# Altium footprint library Connector_Molex.PcbLib: 815 footprints (part 8 of 51)
Each footprint in its own frame and in the unit in brackets; x right, y up, seen from the top. Pads: shape width x height; smd on the part's side, far side on the other; paste and mask are expansions set on the pad; w line width, h text height; cw(c..) or ccw(c..) is an arc to the next point about the centre after c.
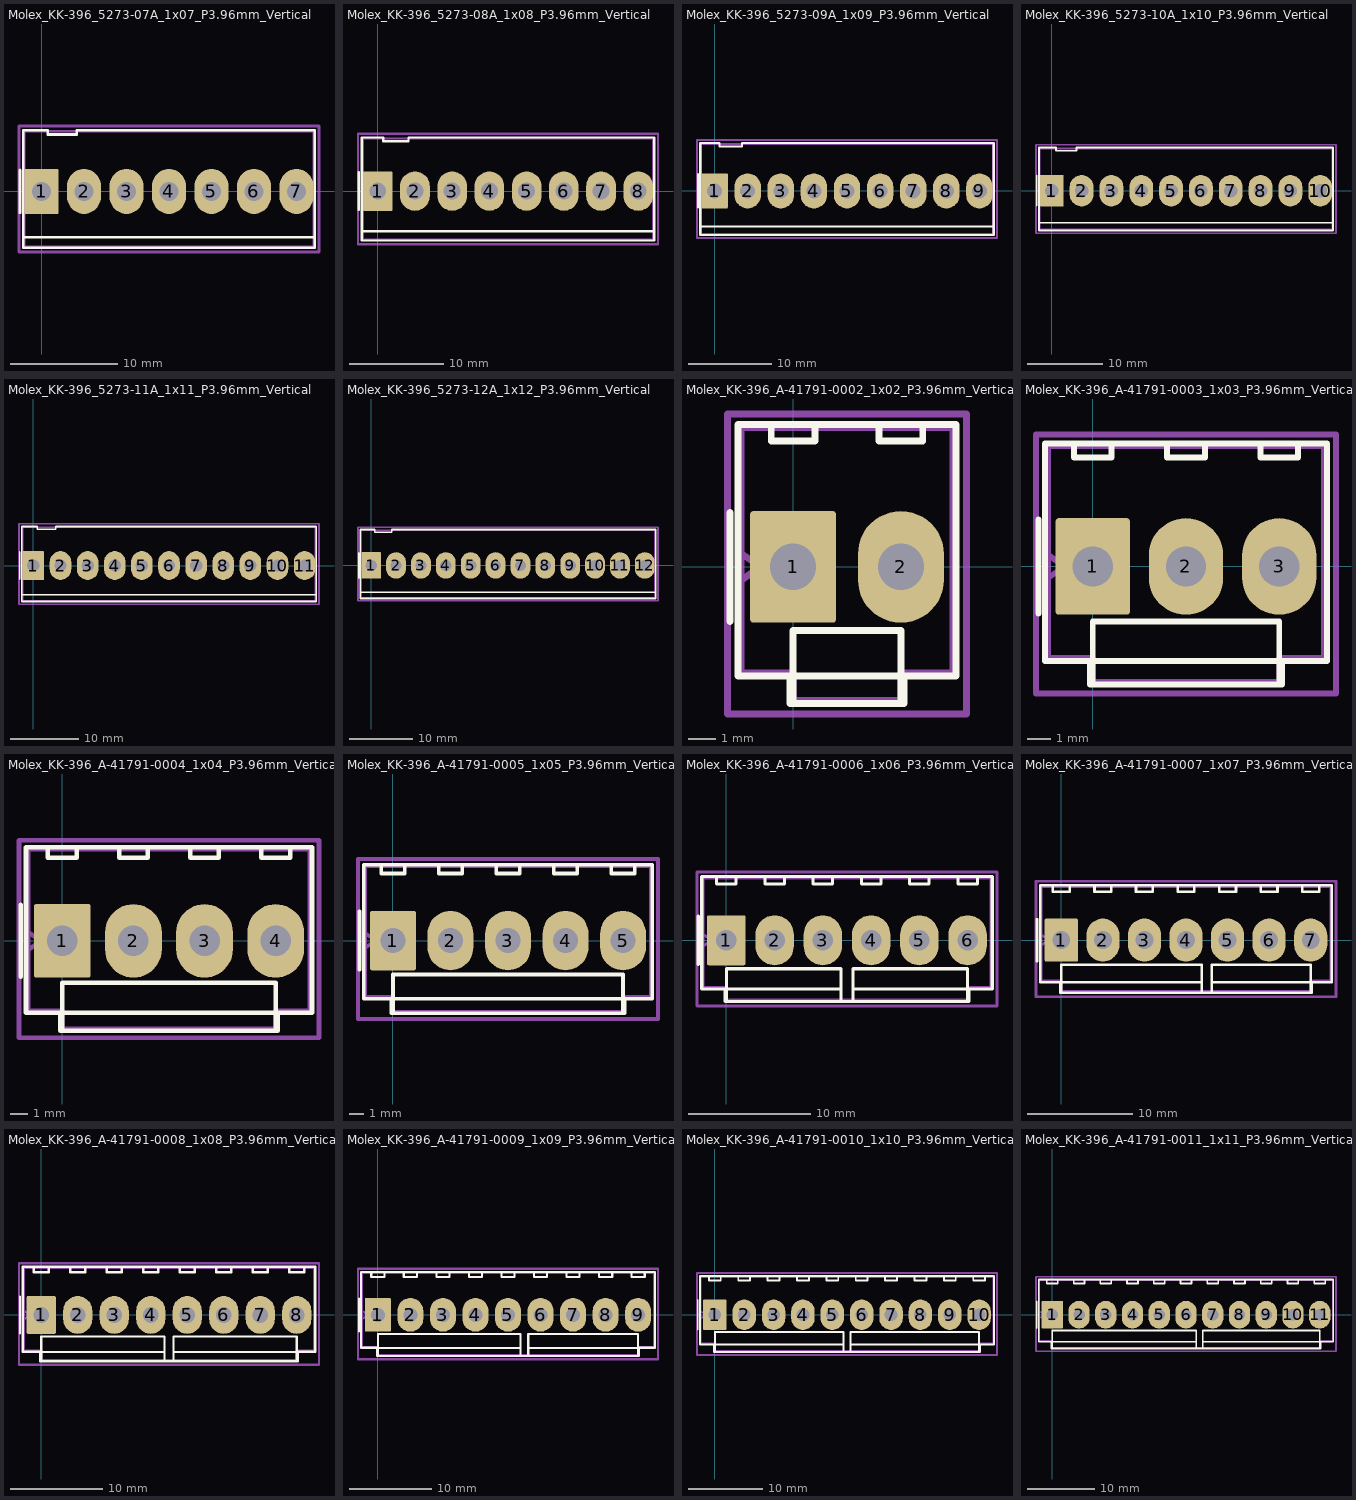
[diagram p7: the footprints below, top view; thin cyan lines are the x and y axes]

## Molex_KK-396_5273-07A_1x07_P3.96mm_Vertical [mm]
pads (7):
  rrect8% 3.16x4.2 hole 1.8: 1(0,0)
  rrect100% 3.16x4.2 hole 1.8: 2(3.96,0) 3(7.92,0) 4(11.88,0) 5(15.84,0) 6(19.8,0) 7(23.76,0)
F.SilkS:
  lines w0.254: -2,-2 -2,2 ; 25.47,-4.26 -1.71,-4.26 ; -1.71,-4.26 -1.71,-5.26 25.47,-5.26 25.47,5.71 3.27,5.71 3.27,5.31 0.57,5.31 0.57,5.71 -1.71,5.71 -1.71,-4.26
Top Assembly:
  lines w0.254: -1.6,-0.5 -0.893,0 -1.6,0.5 ; -1.6,-5.15 25.36,-5.15 25.36,5.6 -1.6,5.6 -1.6,-5.15
  text "'.Designator'" at 7.833,4.06 h1
Top Courtyard:
  lines w0.254: -2.1,-5.65 25.86,-5.65 25.86,6.1 -2.1,6.1 -2.1,-5.65
Top Designator:
  text ".Designator" at 4.262,-0.283 h1.52

## Molex_KK-396_5273-08A_1x08_P3.96mm_Vertical [mm]
pads (8):
  rrect8% 3.16x4.2 hole 1.8: 1(0,0)
  rrect100% 3.16x4.2 hole 1.8: 2(3.96,0) 3(7.92,0) 4(11.88,0) 5(15.84,0) 6(19.8,0) 7(23.76,0) 8(27.72,0)
F.SilkS:
  lines w0.254: -2,-2 -2,2 ; 29.43,-4.26 -1.71,-4.26 ; -1.71,-4.26 -1.71,-5.26 29.43,-5.26 29.43,5.71 3.27,5.71 3.27,5.31 0.57,5.31 0.57,5.71 -1.71,5.71 -1.71,-4.26
Top Assembly:
  lines w0.254: -1.6,-0.5 -0.893,0 -1.6,0.5 ; -1.6,-5.15 29.32,-5.15 29.32,5.6 -1.6,5.6 -1.6,-5.15
  text "'.Designator'" at 9.813,4.06 h1
Top Courtyard:
  lines w0.254: -2.1,-5.65 29.82,-5.65 29.82,6.1 -2.1,6.1 -2.1,-5.65
Top Designator:
  text ".Designator" at 6.242,-0.283 h1.52

## Molex_KK-396_5273-09A_1x09_P3.96mm_Vertical [mm]
pads (9):
  rrect8% 3.16x4.2 hole 1.8: 1(0,0)
  rrect100% 3.16x4.2 hole 1.8: 2(3.96,0) 3(7.92,0) 4(11.88,0) 5(15.84,0) 6(19.8,0) 7(23.76,0) 8(27.72,0) 9(31.68,0)
F.SilkS:
  lines w0.254: -2,-2 -2,2 ; 33.39,-4.26 -1.71,-4.26 ; -1.71,-4.26 -1.71,-5.26 33.39,-5.26 33.39,5.71 3.27,5.71 3.27,5.31 0.57,5.31 0.57,5.71 -1.71,5.71 -1.71,-4.26
Top Assembly:
  lines w0.254: -1.6,-0.5 -0.893,0 -1.6,0.5 ; -1.6,-5.15 33.28,-5.15 33.28,5.6 -1.6,5.6 -1.6,-5.15
  text "'.Designator'" at 11.793,4.06 h1
Top Courtyard:
  lines w0.254: -2.1,-5.65 33.78,-5.65 33.78,6.1 -2.1,6.1 -2.1,-5.65
Top Designator:
  text ".Designator" at 8.222,-0.283 h1.52

## Molex_KK-396_5273-10A_1x10_P3.96mm_Vertical [mm]
pads (10):
  rrect8% 3.16x4.2 hole 1.8: 1(0,0)
  rrect100% 3.16x4.2 hole 1.8: 2(3.96,0) 3(7.92,0) 4(11.88,0) 5(15.84,0) 6(19.8,0) 7(23.76,0) 8(27.72,0) 9(31.68,0) 10(35.64,0)
F.SilkS:
  lines w0.254: -2,-2 -2,2 ; 37.35,-4.26 -1.71,-4.26 ; -1.71,-4.26 -1.71,-5.26 37.35,-5.26 37.35,5.71 3.27,5.71 3.27,5.31 0.57,5.31 0.57,5.71 -1.71,5.71 -1.71,-4.26
Top Assembly:
  lines w0.254: -1.6,-0.5 -0.893,0 -1.6,0.5 ; -1.6,-5.15 37.24,-5.15 37.24,5.6 -1.6,5.6 -1.6,-5.15
  text "'.Designator'" at 13.773,4.06 h1
Top Courtyard:
  lines w0.254: -2.1,-5.65 37.74,-5.65 37.74,6.1 -2.1,6.1 -2.1,-5.65
Top Designator:
  text ".Designator" at 10.202,-0.283 h1.52

## Molex_KK-396_5273-11A_1x11_P3.96mm_Vertical [mm]
pads (11):
  rrect8% 3.16x4.2 hole 1.8: 1(0,0)
  rrect100% 3.16x4.2 hole 1.8: 2(3.96,0) 3(7.92,0) 4(11.88,0) 5(15.84,0) 6(19.8,0) 7(23.76,0) 8(27.72,0) 9(31.68,0) 10(35.64,0) 11(39.6,0)
F.SilkS:
  lines w0.254: -2,-2 -2,2 ; 41.31,-4.26 -1.71,-4.26 ; -1.71,-4.26 -1.71,-5.26 41.31,-5.26 41.31,5.71 3.27,5.71 3.27,5.31 0.57,5.31 0.57,5.71 -1.71,5.71 -1.71,-4.26
Top Assembly:
  lines w0.254: -1.6,-0.5 -0.893,0 -1.6,0.5 ; -1.6,-5.15 41.2,-5.15 41.2,5.6 -1.6,5.6 -1.6,-5.15
  text "'.Designator'" at 15.753,4.06 h1
Top Courtyard:
  lines w0.254: -2.1,-5.65 41.7,-5.65 41.7,6.1 -2.1,6.1 -2.1,-5.65
Top Designator:
  text ".Designator" at 12.182,-0.283 h1.52

## Molex_KK-396_5273-12A_1x12_P3.96mm_Vertical [mm]
pads (12):
  rrect8% 3.16x4.2 hole 1.8: 1(0,0)
  rrect100% 3.16x4.2 hole 1.8: 2(3.96,0) 3(7.92,0) 4(11.88,0) 5(15.84,0) 6(19.8,0) 7(23.76,0) 8(27.72,0) 9(31.68,0) 10(35.64,0) 11(39.6,0) 12(43.56,0)
F.SilkS:
  lines w0.254: -2,-2 -2,2 ; 45.27,-4.26 -1.71,-4.26 ; -1.71,-4.26 -1.71,-5.26 45.27,-5.26 45.27,5.71 3.27,5.71 3.27,5.31 0.57,5.31 0.57,5.71 -1.71,5.71 -1.71,-4.26
Top Assembly:
  lines w0.254: -1.6,-0.5 -0.893,0 -1.6,0.5 ; -1.6,-5.15 45.16,-5.15 45.16,5.6 -1.6,5.6 -1.6,-5.15
  text "'.Designator'" at 17.733,4.06 h1
Top Courtyard:
  lines w0.254: -2.1,-5.65 45.66,-5.65 45.66,6.1 -2.1,6.1 -2.1,-5.65
Top Designator:
  text ".Designator" at 14.162,-0.283 h1.52

## Molex_KK-396_A-41791-0002_1x02_P3.96mm_Vertical [mm]
pads (2):
  rrect8% 3.16x4.1 hole 1.7: 1(0,0)
  rrect100% 3.16x4.1 hole 1.7: 2(3.96,0)
F.SilkS:
  lines w0.254: -2.31,-2 -2.31,2 ; -0.8,5.22 -0.8,4.62 0.8,4.62 0.8,5.22 ; 0,-5.01 0,-4.01 ; 3.16,5.22 3.16,4.62 4.76,4.62 4.76,5.22 ; 3.96,-5.01 3.96,-4.01 ; 0,-4.01 3.96,-4.01 ; 0,-4.01 0,-2.34 3.96,-2.34 3.96,-4.01 ; -2.02,-4.005 -0.115,-4.005 -0.115,-5.01 4.075,-5.01 4.075,-4.005 5.98,-4.005 5.98,5.22 -2.02,5.22 -2.02,-4.005
Top Assembly:
  lines w0.254: -1.91,-0.5 -1.203,0 -1.91,0.5 ; -1.91,-3.895 -0.005,-3.895 -0.005,-4.9 3.965,-4.9 3.965,-3.895 5.87,-3.895 5.87,5.11 -1.91,5.11 -1.91,-3.895
  text "'.Designator'" at -2.067,3.57 h1
Top Courtyard:
  lines w0.254: -2.41,-5.4 6.37,-5.4 6.37,5.61 -2.41,5.61 -2.41,-5.4
Top Designator:
  text ".Designator" at -5.638,-0.403 h1.52

## Molex_KK-396_A-41791-0003_1x03_P3.96mm_Vertical [mm]
pads (3):
  rrect8% 3.16x4.1 hole 1.7: 1(0,0)
  rrect100% 3.16x4.1 hole 1.7: 2(3.96,0) 3(7.92,0)
F.SilkS:
  lines w0.254: -2.31,-2 -2.31,2 ; -0.8,5.22 -0.8,4.62 0.8,4.62 0.8,5.22 ; 0,-5.01 0,-4.01 ; 3.16,5.22 3.16,4.62 4.76,4.62 4.76,5.22 ; 7.12,5.22 7.12,4.62 8.72,4.62 8.72,5.22 ; 7.92,-5.01 7.92,-4.01 ; 0,-4.01 7.92,-4.01 ; 0,-4.01 0,-2.34 7.92,-2.34 7.92,-4.01 ; -2.02,-4.005 -0.115,-4.005 -0.115,-5.01 8.035,-5.01 8.035,-4.005 9.94,-4.005 9.94,5.22 -2.02,5.22 -2.02,-4.005
Top Assembly:
  lines w0.254: -1.91,-0.5 -1.203,0 -1.91,0.5 ; -1.91,-3.895 -0.005,-3.895 -0.005,-4.9 7.925,-4.9 7.925,-3.895 9.83,-3.895 9.83,5.11 -1.91,5.11 -1.91,-3.895
  text "'.Designator'" at -0.087,3.57 h1
Top Courtyard:
  lines w0.254: -2.41,-5.4 10.33,-5.4 10.33,5.61 -2.41,5.61 -2.41,-5.4
Top Designator:
  text ".Designator" at -3.658,-0.403 h1.52

## Molex_KK-396_A-41791-0004_1x04_P3.96mm_Vertical [mm]
pads (4):
  rrect8% 3.16x4.1 hole 1.7: 1(0,0)
  rrect100% 3.16x4.1 hole 1.7: 2(3.96,0) 3(7.92,0) 4(11.88,0)
F.SilkS:
  lines w0.254: -2.31,-2 -2.31,2 ; -0.8,5.22 -0.8,4.62 0.8,4.62 0.8,5.22 ; 0,-5.01 0,-4.01 ; 3.16,5.22 3.16,4.62 4.76,4.62 4.76,5.22 ; 7.12,5.22 7.12,4.62 8.72,4.62 8.72,5.22 ; 11.08,5.22 11.08,4.62 12.68,4.62 12.68,5.22 ; 11.88,-5.01 11.88,-4.01 ; 0,-4.01 11.88,-4.01 ; 0,-4.01 0,-2.34 11.88,-2.34 11.88,-4.01 ; -2.02,-4.005 -0.115,-4.005 -0.115,-5.01 11.995,-5.01 11.995,-4.005 13.9,-4.005 13.9,5.22 -2.02,5.22 -2.02,-4.005
Top Assembly:
  lines w0.254: -1.91,-0.5 -1.203,0 -1.91,0.5 ; -1.91,-3.895 -0.005,-3.895 -0.005,-4.9 11.885,-4.9 11.885,-3.895 13.79,-3.895 13.79,5.11 -1.91,5.11 -1.91,-3.895
  text "'.Designator'" at 1.893,3.57 h1
Top Courtyard:
  lines w0.254: -2.41,-5.4 14.29,-5.4 14.29,5.61 -2.41,5.61 -2.41,-5.4
Top Designator:
  text ".Designator" at -1.678,-0.403 h1.52

## Molex_KK-396_A-41791-0005_1x05_P3.96mm_Vertical [mm]
pads (5):
  rrect8% 3.16x4.1 hole 1.7: 1(0,0)
  rrect100% 3.16x4.1 hole 1.7: 2(3.96,0) 3(7.92,0) 4(11.88,0) 5(15.84,0)
F.SilkS:
  lines w0.254: -2.31,-2 -2.31,2 ; -0.8,5.22 -0.8,4.62 0.8,4.62 0.8,5.22 ; 0,-5.01 0,-4.01 ; 3.16,5.22 3.16,4.62 4.76,4.62 4.76,5.22 ; 7.12,5.22 7.12,4.62 8.72,4.62 8.72,5.22 ; 11.08,5.22 11.08,4.62 12.68,4.62 12.68,5.22 ; 15.04,5.22 15.04,4.62 16.64,4.62 16.64,5.22 ; 15.84,-5.01 15.84,-4.01 ; 0,-4.01 15.84,-4.01 ; 0,-4.01 0,-2.34 15.84,-2.34 15.84,-4.01 ; -2.02,-4.005 -0.115,-4.005 -0.115,-5.01 15.955,-5.01 15.955,-4.005 17.86,-4.005 17.86,5.22 -2.02,5.22 -2.02,-4.005
Top Assembly:
  lines w0.254: -1.91,-0.5 -1.203,0 -1.91,0.5 ; -1.91,-3.895 -0.005,-3.895 -0.005,-4.9 15.845,-4.9 15.845,-3.895 17.75,-3.895 17.75,5.11 -1.91,5.11 -1.91,-3.895
  text "'.Designator'" at 3.873,3.57 h1
Top Courtyard:
  lines w0.254: -2.41,-5.4 18.25,-5.4 18.25,5.61 -2.41,5.61 -2.41,-5.4
Top Designator:
  text ".Designator" at 0.302,-0.403 h1.52

## Molex_KK-396_A-41791-0006_1x06_P3.96mm_Vertical [mm]
pads (6):
  rrect8% 3.16x4.1 hole 1.7: 1(0,0)
  rrect100% 3.16x4.1 hole 1.7: 2(3.96,0) 3(7.92,0) 4(11.88,0) 5(15.84,0) 6(19.8,0)
F.SilkS:
  lines w0.254: -2.31,-2 -2.31,2 ; -0.8,5.22 -0.8,4.62 0.8,4.62 0.8,5.22 ; 0,-5.01 0,-4.01 ; 3.16,5.22 3.16,4.62 4.76,4.62 4.76,5.22 ; 7.12,5.22 7.12,4.62 8.72,4.62 8.72,5.22 ; 9.42,-5.01 9.42,-4.01 ; 10.38,-5.01 10.38,-4.01 ; 11.08,5.22 11.08,4.62 12.68,4.62 12.68,5.22 ; 15.04,5.22 15.04,4.62 16.64,4.62 16.64,5.22 ; 19,5.22 19,4.62 20.6,4.62 20.6,5.22 ; 19.8,-5.01 19.8,-4.01 ; 0,-4.01 9.42,-4.01 ; 0,-4.01 0,-2.34 9.42,-2.34 9.42,-4.01 ; 10.38,-4.01 19.8,-4.01 ; 10.38,-4.01 10.38,-2.34 19.8,-2.34 19.8,-4.01 ; -2.02,-4.005 -0.115,-4.005 -0.115,-5.01 19.915,-5.01 19.915,-4.005 21.82,-4.005 21.82,5.22 -2.02,5.22 -2.02,-4.005
Top Assembly:
  lines w0.254: -1.91,-0.5 -1.203,0 -1.91,0.5 ; -1.91,-3.895 -0.005,-3.895 -0.005,-4.9 19.805,-4.9 19.805,-3.895 21.71,-3.895 21.71,5.11 -1.91,5.11 -1.91,-3.895
  text "'.Designator'" at 5.853,3.57 h1
Top Courtyard:
  lines w0.254: -2.41,-5.4 22.21,-5.4 22.21,5.61 -2.41,5.61 -2.41,-5.4
Top Designator:
  text ".Designator" at 2.282,-0.403 h1.52

## Molex_KK-396_A-41791-0007_1x07_P3.96mm_Vertical [mm]
pads (7):
  rrect8% 3.16x4.1 hole 1.7: 1(0,0)
  rrect100% 3.16x4.1 hole 1.7: 2(3.96,0) 3(7.92,0) 4(11.88,0) 5(15.84,0) 6(19.8,0) 7(23.76,0)
F.SilkS:
  lines w0.254: -2.31,-2 -2.31,2 ; -0.8,5.22 -0.8,4.62 0.8,4.62 0.8,5.22 ; 0,-5.01 0,-4.01 ; 3.16,5.22 3.16,4.62 4.76,4.62 4.76,5.22 ; 7.12,5.22 7.12,4.62 8.72,4.62 8.72,5.22 ; 11.08,5.22 11.08,4.62 12.68,4.62 12.68,5.22 ; 13.38,-5.01 13.38,-4.01 ; 14.34,-5.01 14.34,-4.01 ; 15.04,5.22 15.04,4.62 16.64,4.62 16.64,5.22 ; 19,5.22 19,4.62 20.6,4.62 20.6,5.22 ; 22.96,5.22 22.96,4.62 24.56,4.62 24.56,5.22 ; 23.76,-5.01 23.76,-4.01 ; 0,-4.01 13.38,-4.01 ; 0,-4.01 0,-2.34 13.38,-2.34 13.38,-4.01 ; 14.34,-4.01 23.76,-4.01 ; 14.34,-4.01 14.34,-2.34 23.76,-2.34 23.76,-4.01 ; -2.02,-4.005 -0.115,-4.005 -0.115,-5.01 23.875,-5.01 23.875,-4.005 25.78,-4.005 25.78,5.22 -2.02,5.22 -2.02,-4.005
Top Assembly:
  lines w0.254: -1.91,-0.5 -1.203,0 -1.91,0.5 ; -1.91,-3.895 -0.005,-3.895 -0.005,-4.9 23.765,-4.9 23.765,-3.895 25.67,-3.895 25.67,5.11 -1.91,5.11 -1.91,-3.895
  text "'.Designator'" at 7.833,3.57 h1
Top Courtyard:
  lines w0.254: -2.41,-5.4 26.17,-5.4 26.17,5.61 -2.41,5.61 -2.41,-5.4
Top Designator:
  text ".Designator" at 4.262,-0.403 h1.52

## Molex_KK-396_A-41791-0008_1x08_P3.96mm_Vertical [mm]
pads (8):
  rrect8% 3.16x4.1 hole 1.7: 1(0,0)
  rrect100% 3.16x4.1 hole 1.7: 2(3.96,0) 3(7.92,0) 4(11.88,0) 5(15.84,0) 6(19.8,0) 7(23.76,0) 8(27.72,0)
F.SilkS:
  lines w0.254: -2.31,-2 -2.31,2 ; -0.8,5.22 -0.8,4.62 0.8,4.62 0.8,5.22 ; 0,-5.01 0,-4.01 ; 3.16,5.22 3.16,4.62 4.76,4.62 4.76,5.22 ; 7.12,5.22 7.12,4.62 8.72,4.62 8.72,5.22 ; 11.08,5.22 11.08,4.62 12.68,4.62 12.68,5.22 ; 13.38,-5.01 13.38,-4.01 ; 14.34,-5.01 14.34,-4.01 ; 15.04,5.22 15.04,4.62 16.64,4.62 16.64,5.22 ; 19,5.22 19,4.62 20.6,4.62 20.6,5.22 ; 22.96,5.22 22.96,4.62 24.56,4.62 24.56,5.22 ; 26.92,5.22 26.92,4.62 28.52,4.62 28.52,5.22 ; 27.72,-5.01 27.72,-4.01 ; 0,-4.01 0,-2.34 13.38,-2.34 13.38,-4.01 ; 0,-4.01 13.38,-4.01 ; 14.34,-4.01 14.34,-2.34 27.72,-2.34 27.72,-4.01 ; 14.34,-4.01 27.72,-4.01 ; -2.02,-4.005 -2.02,5.22 29.74,5.22 29.74,-4.005 27.835,-4.005 27.835,-5.01 -0.115,-5.01 -0.115,-4.005 -2.02,-4.005
Top Assembly:
  lines w0.254: -1.91,-0.5 -1.203,0 -1.91,0.5 ; -1.91,-3.895 -1.91,5.11 29.63,5.11 29.63,-3.895 27.725,-3.895 27.725,-4.9 -0.005,-4.9 -0.005,-3.895 -1.91,-3.895
  text "'.Designator'" at 9.813,3.57 h1
Top Courtyard:
  lines w0.254: -2.41,-5.4 -2.41,5.61 30.13,5.61 30.13,-5.4 -2.41,-5.4
Top Designator:
  text ".Designator" at 6.242,-0.403 h1.52

## Molex_KK-396_A-41791-0009_1x09_P3.96mm_Vertical [mm]
pads (9):
  rrect8% 3.16x4.1 hole 1.7: 1(0,0)
  rrect100% 3.16x4.1 hole 1.7: 2(3.96,0) 3(7.92,0) 4(11.88,0) 5(15.84,0) 6(19.8,0) 7(23.76,0) 8(27.72,0) 9(31.68,0)
F.SilkS:
  lines w0.254: -2.31,-2 -2.31,2 ; -0.8,5.22 -0.8,4.62 0.8,4.62 0.8,5.22 ; 0,-5.01 0,-4.01 ; 3.16,5.22 3.16,4.62 4.76,4.62 4.76,5.22 ; 7.12,5.22 7.12,4.62 8.72,4.62 8.72,5.22 ; 11.08,5.22 11.08,4.62 12.68,4.62 12.68,5.22 ; 15.04,5.22 15.04,4.62 16.64,4.62 16.64,5.22 ; 17.34,-5.01 17.34,-4.01 ; 18.3,-5.01 18.3,-4.01 ; 19,5.22 19,4.62 20.6,4.62 20.6,5.22 ; 22.96,5.22 22.96,4.62 24.56,4.62 24.56,5.22 ; 26.92,5.22 26.92,4.62 28.52,4.62 28.52,5.22 ; 30.88,5.22 30.88,4.62 32.48,4.62 32.48,5.22 ; 31.68,-5.01 31.68,-4.01 ; 0,-4.01 17.34,-4.01 ; 0,-4.01 0,-2.34 17.34,-2.34 17.34,-4.01 ; 18.3,-4.01 31.68,-4.01 ; 18.3,-4.01 18.3,-2.34 31.68,-2.34 31.68,-4.01 ; -2.02,-4.005 -0.115,-4.005 -0.115,-5.01 31.795,-5.01 31.795,-4.005 33.7,-4.005 33.7,5.22 -2.02,5.22 -2.02,-4.005
Top Assembly:
  lines w0.254: -1.91,-0.5 -1.203,0 -1.91,0.5 ; -1.91,-3.895 -0.005,-3.895 -0.005,-4.9 31.685,-4.9 31.685,-3.895 33.59,-3.895 33.59,5.11 -1.91,5.11 -1.91,-3.895
  text "'.Designator'" at 11.793,3.57 h1
Top Courtyard:
  lines w0.254: -2.41,-5.4 34.09,-5.4 34.09,5.61 -2.41,5.61 -2.41,-5.4
Top Designator:
  text ".Designator" at 8.222,-0.403 h1.52

## Molex_KK-396_A-41791-0010_1x10_P3.96mm_Vertical [mm]
pads (10):
  rrect8% 3.16x4.1 hole 1.7: 1(0,0)
  rrect100% 3.16x4.1 hole 1.7: 2(3.96,0) 3(7.92,0) 4(11.88,0) 5(15.84,0) 6(19.8,0) 7(23.76,0) 8(27.72,0) 9(31.68,0) 10(35.64,0)
F.SilkS:
  lines w0.254: -2.31,-2 -2.31,2 ; -0.8,5.22 -0.8,4.62 0.8,4.62 0.8,5.22 ; 0,-5.01 0,-4.01 ; 3.16,5.22 3.16,4.62 4.76,4.62 4.76,5.22 ; 7.12,5.22 7.12,4.62 8.72,4.62 8.72,5.22 ; 11.08,5.22 11.08,4.62 12.68,4.62 12.68,5.22 ; 15.04,5.22 15.04,4.62 16.64,4.62 16.64,5.22 ; 17.34,-5.01 17.34,-4.01 ; 18.3,-5.01 18.3,-4.01 ; 19,5.22 19,4.62 20.6,4.62 20.6,5.22 ; 22.96,5.22 22.96,4.62 24.56,4.62 24.56,5.22 ; 26.92,5.22 26.92,4.62 28.52,4.62 28.52,5.22 ; 30.88,5.22 30.88,4.62 32.48,4.62 32.48,5.22 ; 34.84,5.22 34.84,4.62 36.44,4.62 36.44,5.22 ; 35.64,-5.01 35.64,-4.01 ; 0,-4.01 17.34,-4.01 ; 0,-4.01 0,-2.34 17.34,-2.34 17.34,-4.01 ; 18.3,-4.01 35.64,-4.01 ; 18.3,-4.01 18.3,-2.34 35.64,-2.34 35.64,-4.01 ; -2.02,-4.005 -0.115,-4.005 -0.115,-5.01 35.755,-5.01 35.755,-4.005 37.66,-4.005 37.66,5.22 -2.02,5.22 -2.02,-4.005
Top Assembly:
  lines w0.254: -1.91,-0.5 -1.203,0 -1.91,0.5 ; -1.91,-3.895 -0.005,-3.895 -0.005,-4.9 35.645,-4.9 35.645,-3.895 37.55,-3.895 37.55,5.11 -1.91,5.11 -1.91,-3.895
  text "'.Designator'" at 13.773,3.57 h1
Top Courtyard:
  lines w0.254: -2.41,-5.4 38.05,-5.4 38.05,5.61 -2.41,5.61 -2.41,-5.4
Top Designator:
  text ".Designator" at 10.202,-0.403 h1.52

## Molex_KK-396_A-41791-0011_1x11_P3.96mm_Vertical [mm]
pads (11):
  rrect8% 3.16x4.1 hole 1.7: 1(0,0)
  rrect100% 3.16x4.1 hole 1.7: 2(3.96,0) 3(7.92,0) 4(11.88,0) 5(15.84,0) 6(19.8,0) 7(23.76,0) 8(27.72,0) 9(31.68,0) 10(35.64,0) 11(39.6,0)
F.SilkS:
  lines w0.254: -2.31,-2 -2.31,2 ; -0.8,5.22 -0.8,4.62 0.8,4.62 0.8,5.22 ; 0,-5.01 0,-4.01 ; 3.16,5.22 3.16,4.62 4.76,4.62 4.76,5.22 ; 7.12,5.22 7.12,4.62 8.72,4.62 8.72,5.22 ; 11.08,5.22 11.08,4.62 12.68,4.62 12.68,5.22 ; 15.04,5.22 15.04,4.62 16.64,4.62 16.64,5.22 ; 19,5.22 19,4.62 20.6,4.62 20.6,5.22 ; 21.3,-5.01 21.3,-4.01 ; 22.26,-5.01 22.26,-4.01 ; 22.96,5.22 22.96,4.62 24.56,4.62 24.56,5.22 ; 26.92,5.22 26.92,4.62 28.52,4.62 28.52,5.22 ; 30.88,5.22 30.88,4.62 32.48,4.62 32.48,5.22 ; 34.84,5.22 34.84,4.62 36.44,4.62 36.44,5.22 ; 38.8,5.22 38.8,4.62 40.4,4.62 40.4,5.22 ; 39.6,-5.01 39.6,-4.01 ; 0,-4.01 0,-2.34 21.3,-2.34 21.3,-4.01 ; 0,-4.01 21.3,-4.01 ; 22.26,-4.01 22.26,-2.34 39.6,-2.34 39.6,-4.01 ; 22.26,-4.01 39.6,-4.01 ; -2.02,-4.005 -2.02,5.22 41.62,5.22 41.62,-4.005 39.715,-4.005 39.715,-5.01 -0.115,-5.01 -0.115,-4.005 -2.02,-4.005
Top Assembly:
  lines w0.254: -1.91,-0.5 -1.203,0 -1.91,0.5 ; -1.91,-3.895 -1.91,5.11 41.51,5.11 41.51,-3.895 39.605,-3.895 39.605,-4.9 -0.005,-4.9 -0.005,-3.895 -1.91,-3.895
  text "'.Designator'" at 15.753,3.57 h1
Top Courtyard:
  lines w0.254: -2.41,-5.4 -2.41,5.61 42.01,5.61 42.01,-5.4 -2.41,-5.4
Top Designator:
  text ".Designator" at 12.182,-0.403 h1.52